# Altium footprint library NTD4858N35G.PcbLib: 1 footprints
Each footprint in its own frame and in the unit in brackets; x right, y up, seen from the top. Pads: shape width x height; smd on the part's side, far side on the other; paste and mask are expansions set on the pad; w line width, h text height; cw(c..) or ccw(c..) is an arc to the next point about the centre after c.
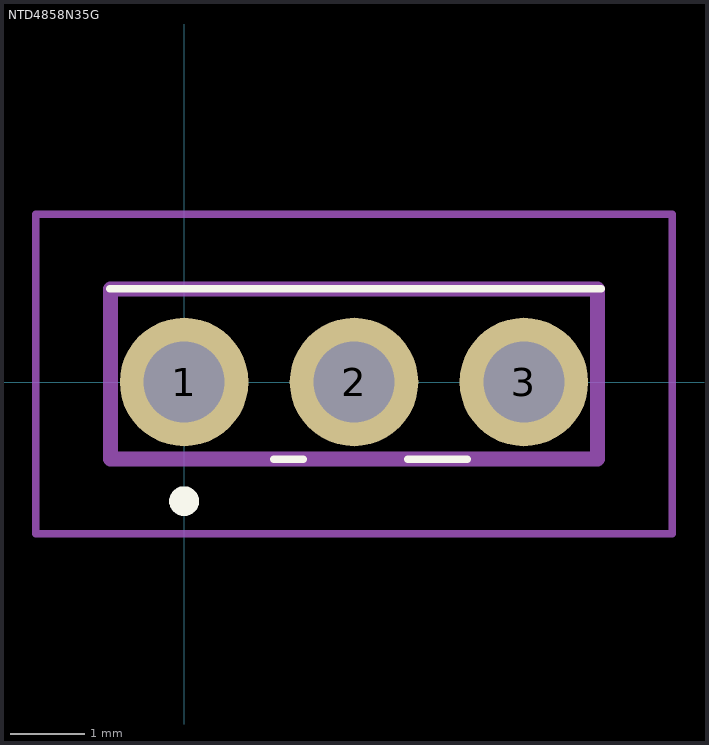
[diagram p0: the footprint, top view; thin cyan lines are the x and y axes]

## NTD4858N35G [mm]
pads (3):
  round 1.725 hole 1.09: 1(0,0) 2(2.28,0) 3(4.56,0)
Top Overlay:
  lines w0.1: -1,1.25 5.6,1.25 ; 1.2,-1.035 1.6,-1.035 ; 3,-1.035 3.8,-1.035
  lines w0.2: 0,-1.7 cw(c0,-1.6) 0,-1.5 ; 0,-1.7 0,-1.7 ; 0,-1.7 ccw(c0,-1.6) 0,-1.5 ; 0,-1.5 0,-1.5
Mechanical 15:
  lines w0.2: -0.99,-1.035 5.55,-1.035 5.55,1.25 -0.99,1.25 -0.99,-1.035
Mechanical 20:
  lines w0.1: -1.99,-2.035 6.55,-2.035 6.55,2.25 -1.99,2.25 -1.99,-2.035